# Altium footprint library XAL8080.PcbLib: 1 footprints
Each footprint in its own frame and in the unit in brackets; x right, y up, seen from the top. Pads: shape width x height; smd on the part's side, far side on the other; paste and mask are expansions set on the pad; w line width, h text height; cw(c..) or ccw(c..) is an arc to the next point about the centre after c.
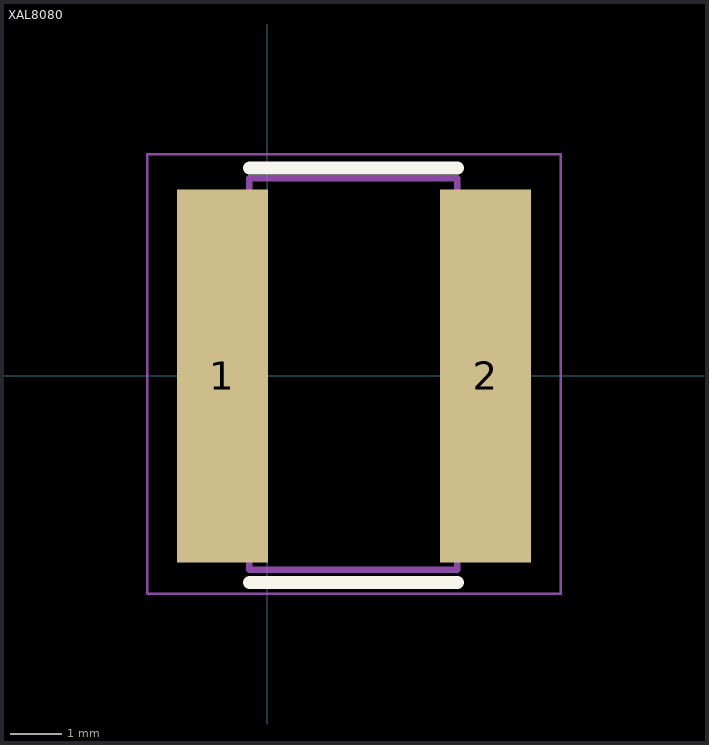
[diagram p0: the footprint, top view; thin cyan lines are the x and y axes]

## XAL8080 [mm]
pads (2):
  rect 1.78x7.31 smd: 1(-0.88,0) 2(4.28,0)
Top Overlay:
  lines w0.254: -0.35,-4.05 3.725,-4.05 ; -0.35,4.075 3.725,4.075
Assembly Top:
  lines w0.127: -0.35,-3.8 -0.35,3.875 3.725,3.875 3.725,-3.8 -0.35,-3.8
Top Courtyard:
  lines w0.05: -2.352,4.327 -2.352,-4.273 5.748,-4.273 ; -2.352,4.345 5.748,4.345 5.748,-4.255
3D body: height 0.25, standoff 0, extent -0.88,-3.8 4.28,3.875